# Altium footprint library DM3AT-SF-PEJM5.PcbLib: 1 footprints
Each footprint in its own frame and in the unit in brackets; x right, y up, seen from the top. Pads: shape width x height; smd on the part's side, far side on the other; paste and mask are expansions set on the pad; w line width, h text height; cw(c..) or ccw(c..) is an arc to the next point about the centre after c.
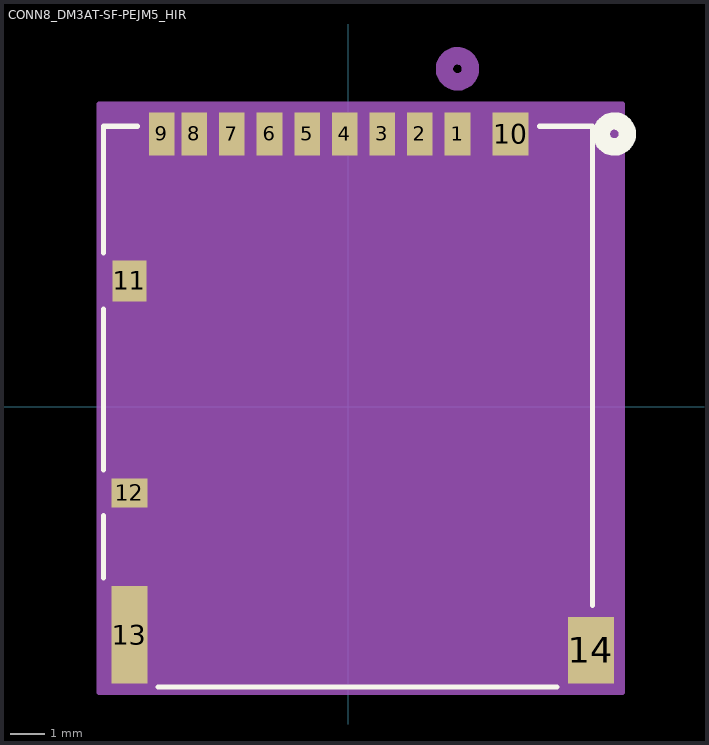
[diagram p0: the footprint, top view; thin cyan lines are the x and y axes]

## CONN8_DM3AT-SF-PEJM5_HIR [mm]
pads (14):
  rect 0.75x1.25 smd paste+0 mask+0: 1(3.2,7.975) 2(2.1,7.975) 3(1,7.975) 4(-0.1,7.975) 5(-1.2,7.975) 6(-2.3,7.975) 7(-3.4,7.975) 8(-4.5,7.975) 9(-5.45,7.975)
  rect 1.05x1.25 smd paste-0.625 mask-0.622: 10(4.75,7.975)
  rect 1x1.2 smd paste-0.6 mask-0.597: 11(-6.4,3.675)
  rect 1.05x0.85 smd paste-0.525 mask-0.521: 12(-6.4,-2.525)
  rect 1.05x2.85 smd paste-1.425 mask-1.422: 13(-6.4,-6.675)
  rect 1.35x1.95 smd paste-0.975 mask-0.978: 14(7.1,-7.125)
Top Overlay:
  circle w0.508: c7.787,7.975 r0.381
  lines w0.152: -7.152,-5.007 -7.152,-3.193 ; -7.152,-1.857 -7.152,2.858 ; -7.152,4.492 -7.152,8.202 -6.158,8.202 ; -5.558,-8.202 6.108,-8.202 ; 5.608,8.202 7.152,8.202 7.152,-5.817
  text ".Designator" at -3.492,7.34 h1.27
Bottom Overlay:
  circle w0.508: c7.787,7.975 r0.381
Mechanical 13:
  circle w0.508: c3.2,9.88 r0.381
  lines w0.025: -7.025,-8.075 7.025,-8.075 7.025,8.075 -7.025,8.075 -7.025,-8.075
  text ".Designator" at -3.492,7.34 h1.27
Mechanical 15:
  region: 8.029,8.854 -7.279,8.854 -7.279,-8.354 8.029,-8.354
  lines w0.152: -7.279,-8.354 -7.279,8.854 8.029,8.854 8.029,-8.354 -7.279,-8.354